# EAGLE library part ADP5070AREZ (library ADP5070AREZ)
Switching Voltage Regulators uPMU V+/V- sw reg for bipolarADC/DAC/AMP Source: Datasheet <https://www.analog.com/media/en/technical-documentation/data-sheets/adp5070.pdf>
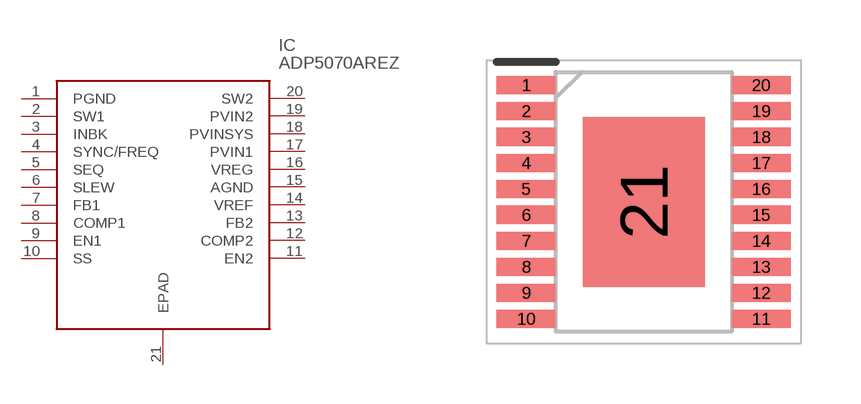
[diagram p0: symbol with the pads of SOP65P640X120-21N; footprint SOP65P640X120-21N]

Designator prefix IC

## ADP5070AREZ (Arrow_Part_Number: ADP5070AREZ; Arrow_Price-Stock: https://www.arrow.com/en/products/adp5070arez/analog-devices?region=nac; Description: Switching Voltage Regulators uPMU V+/V- sw reg for bipolarADC/DAC/AMP; Height: 1.2mm; Manufacturer_Name: Analog Devices; Manufacturer_Part_Number: ADP5070AREZ; Mouser_Part_Number: 584-ADP5070AREZ; Mouser_Price-Stock: https://www.mouser.co.uk/ProductDetail/Analog-Devices/ADP5070AREZ?qs=NEWnq6vH5Lcc%2FMGqhfnITw%3D%3D)  [SOP65P640X120-21N]
1  PGND
2  SW1
3  INBK
4  SYNC/FREQ
5  SEQ
6  SLEW
7  FB1
8  COMP1
9  EN1
10  SS
11  EN2
12  COMP2
13  FB2
14  VREF
15  AGND
16  VREG
17  PVIN1
18  PVINSYS
19  PVIN2
20  SW2
21  EPAD

## Footprint SOP65P640X120-21N (pad centres in mm)
ep(TSSOP)
smd 1.475 x 0.45: 1 -2.938,2.925; 2 -2.938,2.275; 3 -2.938,1.625; 4 -2.938,0.975; 5 -2.938,0.325; 6 -2.938,-0.325; 7 -2.938,-0.975; 8 -2.938,-1.625; 9 -2.938,-2.275; 10 -2.938,-2.925; 11 2.938,-2.925; 12 2.938,-2.275; 13 2.938,-1.625; 14 2.938,-0.975; 15 2.938,-0.325; 16 2.938,0.325; 17 2.938,0.975; 18 2.938,1.625; 19 2.938,2.275; 20 2.938,2.925
smd 3.05 x 4.25: 21 0,0